# Altium schematic symbol library VW.SchLib: 15 symbols
Pins are listed as number, name and electrical type; pins without a type are passive.

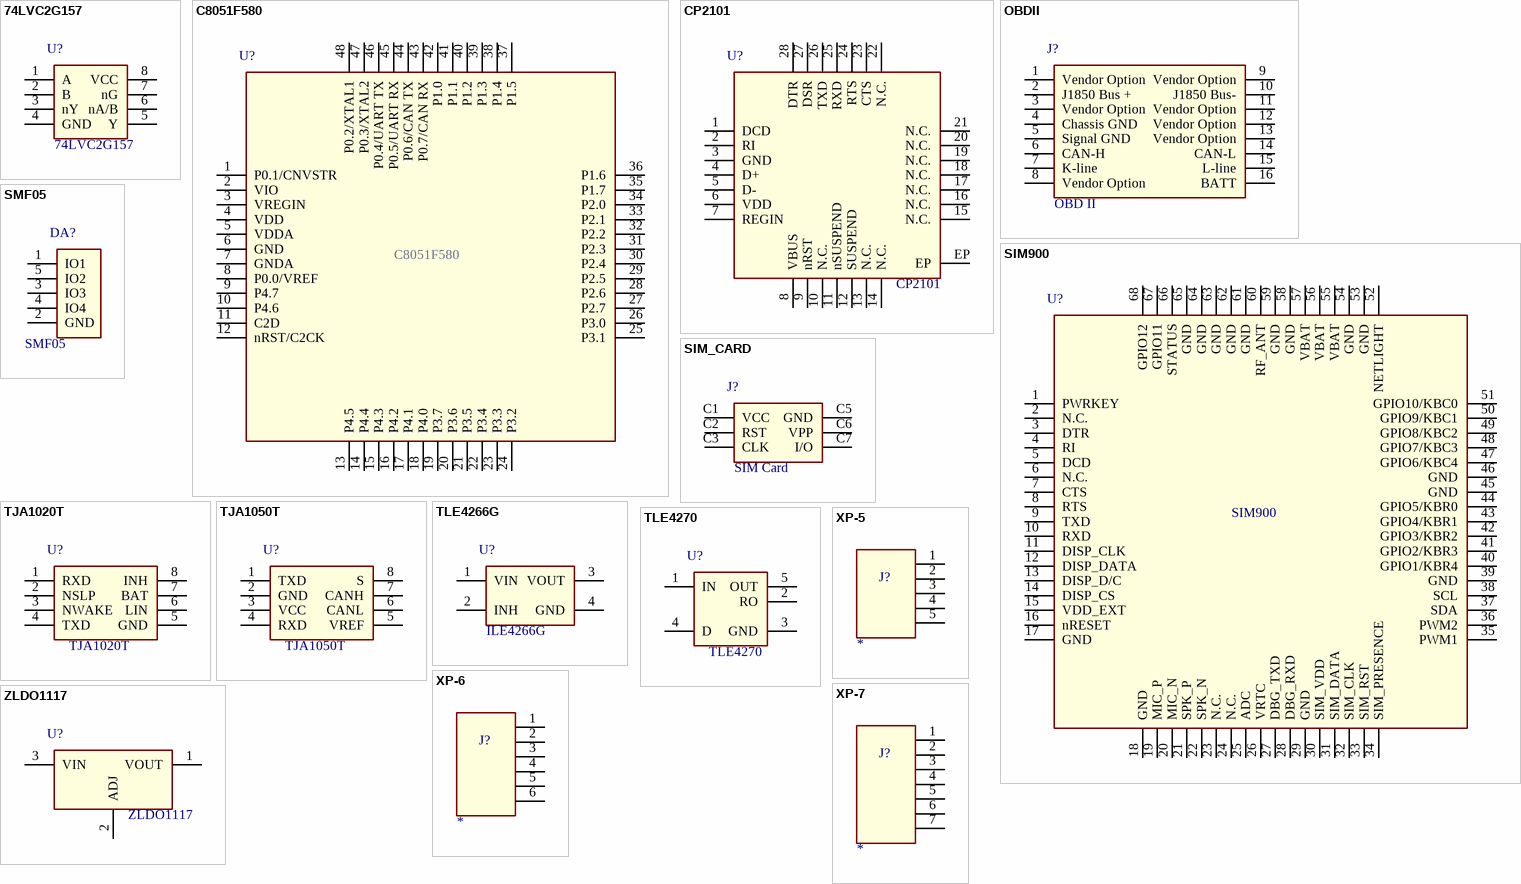
[diagram p0: symbols 74LVC2G157 to ZLDO1117]

## 74LVC2G157
designator U?
Value: 74LVC2G157
footprint TSSOP50P310X90-8N (TSSOP, 8-Leads, Body 2,00x2,30mm, Pitch 0,50mm, IPC Medium Density)
pins: 1 A, 2 B, 3 nY, 4 GND, 5 Y, 6 nA/B, 7 nG, 8 VCC

## C8051F580
designator U?
Value: C8051F580
footprint TSQFP50P900X900X120-48N (TSQFP, 48-Leads, Body 7,00x7,00mm, Pitch 0,50mm, IPC Medium Density)
pins: 1 P0.1/CNVSTR, 2 VIO, 3 VREGIN, 4 VDD, 5 VDDA, 6 GND, 7 GNDA, 8 P0.0/VREF, 9 P4.7, 10 P4.6, 11 C2D, 12 nRST/C2CK, 13 P4.5, 14 P4.4, 15 P4.3, 16 P4.2, 17 P4.1, 18 P4.0, 19 P3.7, 20 P3.6, 21 P3.5, 22 P3.4, 23 P3.3, 24 P3.2, 25 P3.1, 26 P3.0, 27 P2.7, 28 P2.6, 29 P2.5, 30 P2.4, 31 P2.3, 32 P2.2, 33 P2.1, 34 P2.0, 35 P1.7, 36 P1.6, 37 P1.5, 38 P1.4, 39 P1.3, 40 P1.2, 41 P1.1, 42 P1.0, 43 P0.7/CAN RX, 44 P0.6/CAN TX, 45 P0.5/UART RX, 46 P0.4/UART TX, 47 P0.3/XTAL2, 48 P0.2/XTAL1

## CP2101
designator U?
OOPTION: *; Value: CP2101
footprint QFN50P500X500X100_HS-29N (QFN, 28-Leads, Body 5,00x5,00mm, Pitch 0,50mm, Thermal Pad 3,13x3,13mm, IPC Medium Density)
pins: 1 DCD, 2 RI, 3 GND, 4 D+, 5 D-, 6 VDD, 7 REGIN, 8 VBUS, 9 nRST, 10 N.C., 11 nSUSPEND, 12 SUSPEND, 13 N.C., 14 N.C., 15 N.C., 16 N.C., 17 N.C., 18 N.C., 19 N.C., 20 N.C., 21 N.C., 22 N.C., 23 CTS, 24 RTS, 25 RXD, 26 TXD, 27 DSR, 28 DTR, EP

## OBDII
designator J?, comment OBD II
Value: OBD II
pins: 1 Vendor Option, 2 J1850 Bus +, 3 Vendor Option, 4 Chassis GND, 5 Signal GND, 6 CAN-H, 7 K-line, 8 Vendor Option, 9 Vendor Option, 10 J1850 Bus-, 11 Vendor Option, 12 Vendor Option, 13 Vendor Option, 14 CAN-L, 15 L-line, 16 BATT

## SIM900
designator U?
Value: SIM900
footprint QFN100P2400X2400X320-68N (QFN, 68-Leads, Body 24,00x24,00mm, Pitch 1,00mm, IPC Medium Density)
pins: 1 PWRKEY, 2 N.C., 3 DTR, 4 RI, 5 DCD, 6 N.C., 7 CTS, 8 RTS, 9 TXD, 10 RXD, 11 DISP_CLK, 12 DISP_DATA, 13 DISP_D/C, 14 DISP_CS, 15 VDD_EXT, 16 nRESET, 17 GND, 18 GND, 19 MIC_P, 20 MIC_N, 21 SPK_P, 22 SPK_N, 23 N.C., 24 N.C., 25 ADC, 26 VRTC, 27 DBG_TXD, 28 DBG_RXD, 29 GND, 30 SIM_VDD, 31 SIM_DATA, 32 SIM_CLK, 33 SIM_RST, 34 SIM_PRESENCE, 35 PWM1, 36 PWM2, 37 SDA, 38 SCL, 39 GND, 40 GPIO1/KBR4, 41 GPIO2/KBR3, 42 GPIO3/KBR2, 43 GPIO4/KBR1, 44 GPIO5/KBR0, 45 GND, 46 GND, 47 GPIO6/KBC4, 48 GPIO7/KBC3, 49 GPIO8/KBC2, 50 GPIO9/KBC1, 51 GPIO10/KBC0, 52 NETLIGHT, 53 GND, 54 GND, 55 VBAT, 56 VBAT, 57 VBAT, 58 GND, 59 GND, 60 RF_ANT, 61 GND, 62 GND, 63 GND, 64 GND, 65 GND, 66 STATUS, 67 GPIO11, 68 GPIO12

## SIM_CARD
designator J?, comment SIM Card
Value: SIM Card
footprint SIM_Card
pins: C1 VCC, C2 RST, C3 CLK, C5 GND, C6 VPP, C7 I/O

## SMF05
designator DA?
Value: SMF05
footprint SOT65P210X110-5N (SOT23, 5-Leads, Body 2,00x2,10mm, Pitch 0,65mm, IPC Medium Density)
pins: 1 IO1, 2 GND, 3 IO3, 4 IO4, 5 IO2

## TJA1020T
designator U?
Value: TJA1020T
footprint SOIC127P600X175-8N (SOIC, 8-Leads, Body 4,90x3,90mm, Pitch 1,27mm, IPC Medium Density)
pins: 1 RXD, 2 NSLP, 3 NWAKE, 4 TXD, 5 GND, 6 LIN, 7 BAT, 8 INH

## TJA1050T
designator U?
Value: TJA1050T
footprint SOIC127P600X175-8N (SOIC, 8-Leads, Body 4,90x3,90mm, Pitch 1,27mm, IPC Medium Density)
pins: 1 TXD, 2 GND, 3 VCC, 4 RXD, 5 VREF, 6 CANL, 7 CANH, 8 S

## TLE4266G
designator U?, comment ILE4266G
Value: ILE4266G
footprint SOT230P700X170-4N (SOT223, 4-Leads, Body 6,50x7,00mm (avg), Pitch 2,30mm, IPC Medium Density)
pins: 1 VIN, 2 INH, 3 VOUT, 4 GND

## TLE4270
designator U?
Value: TLE4270
footprint SOT170P1500X440-6N (SOT223, 6-Leads, Body 10,00x15,00mm (avg), Pitch 1,70mm, IPC Medium Density)
pins: 1 IN, 2 RO, 3 GND, 4 D, 5 OUT, EP hidden to GND_POWER

## XP-5
designator J?
OOPTION: *; Value: *
footprint PLS-5R
pins: 1, 2, 3, 4, 5

## XP-6
designator J?
OOPTION: *; Value: *
footprint PLS-6R
pins: 1, 2, 3, 4, 5, 6

## XP-7
designator J?
OOPTION: *; Value: *
footprint PLS-7R
pins: 1, 2, 3, 4, 5, 6, 7

## ZLDO1117
designator U?
Value: ZLDO1117
footprint SOT230P700X170-4N (SOT223, 4-Leads, Body 6,50x7,00mm (avg), Pitch 2,30mm, IPC Medium Density)
pins: 1 VOUT, 2 ADJ, 3 VIN, 4 PAD hidden to GND_POWER